# Altium schematic symbol library ADP2164ACPZ.Schlib: 1 symbol
Pins are listed as number, name and electrical type; pins without a type are passive.

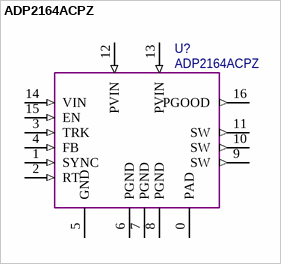
[diagram p0: symbol ADP2164ACPZ]

## ADP2164ACPZ
designator U?
pins: 0 PAD (power), 1 SYNC (in), 2 RT (in), 3 TRK (in), 4 FB (in), 5 GND (power), 6 PGND (power), 7 PGND (power), 8 PGND (power), 9 SW (out), 10 SW (out), 11 SW (out), 12 PVIN (in), 13 PVIN (in), 14 VIN (in), 15 EN (in), 16 PGOOD (out)